# Altium schematic symbol library Pannel.SchLib: 1 symbol
Pins are listed as number, name and electrical type; pins without a type are passive.

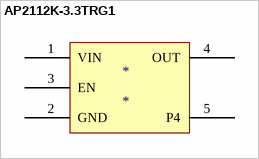
[diagram p0: symbol AP2112K-3.3TRG1]

## AP2112K-3.3TRG1
designator *
pins: 1 VIN, 2 GND, 3 EN, 4 OUT, 5 P4